# Altium schematic symbol library ALTAIR_PD_Pogo.SchLib: 3 symbols
Pins are listed as number, name and electrical type; pins without a type are passive.

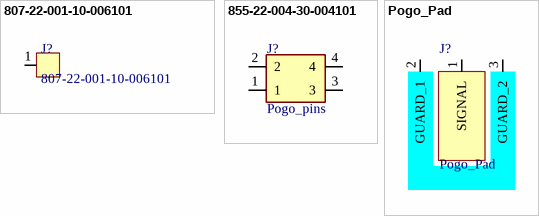
[diagram p0: symbols 807-22-001-10-006101 to Pogo_Pad]

## 807-22-001-10-006101
designator J?
Mill-Max Individual Insulated Pin 5.99mm Initial Height
footprint POGO PIN 807-22-001-10-006101 (Mill-Max 807-22-001-10-006101 Insulated Discrete Pogo Pin 5.99mm init height 2.79mm diameter)
pins: 1

## 855-22-004-30-004101
designator J?, comment Pogo_pins
2x2 Spring-Loaded SMD 50mil pitch; Manufacturer_Name: Mill-Max; Manufacturer_Part_Number: 855-22-004-30-004101; Datasheet Link: https://www.mill-max.com/products/datasheet/sockets/855-22-004-30-004101; Height: 4.22mm; Mouser Part Number: 575-8552200430004101; Mouser Price/Stock: https://www.mouser.co.uk/ProductDetail/Mill-Max/855-22-004-30-004101?qs=t7xnP681wgXVXSRyupa05g%3D%3D
footprint POGO PINS 2x2 SMD 50mil pitch (Mill-Max 855-22-004-30-004101)
pins: 1, 2, 3, 4

## Pogo_Pad
designator J?
Pad for Pogo Pins with Guard
footprint Pogo_pad
pins: 1 SIGNAL, 2 GUARD_1, 3 GUARD_2